# Altium schematic symbol library TPS383x.SchLib: 2 symbols
Pins are listed as number, name and electrical type; pins without a type are passive.

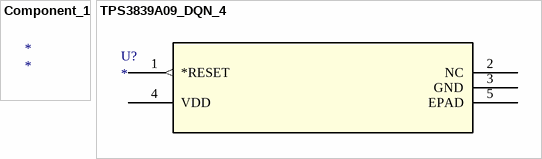
[diagram p0: symbols Component_1 to TPS3839A09_DQN_4]

## Component_1
designator *

## TPS3839A09_DQN_4
designator U?
Imported; Manufacturer_Part_Number: tps3839a09_dqn_4; Vendor: TEXAS INSTRUMENTS; Value: Value; Type: Type; RefDes: RefDes
footprint DQN4
pins: 1 *RESET (out), 2 NC, 3 GND (power), 4 VDD (power), 5 EPAD